# EAGLE library part AMP_PAM8403 (library aaaacustom)
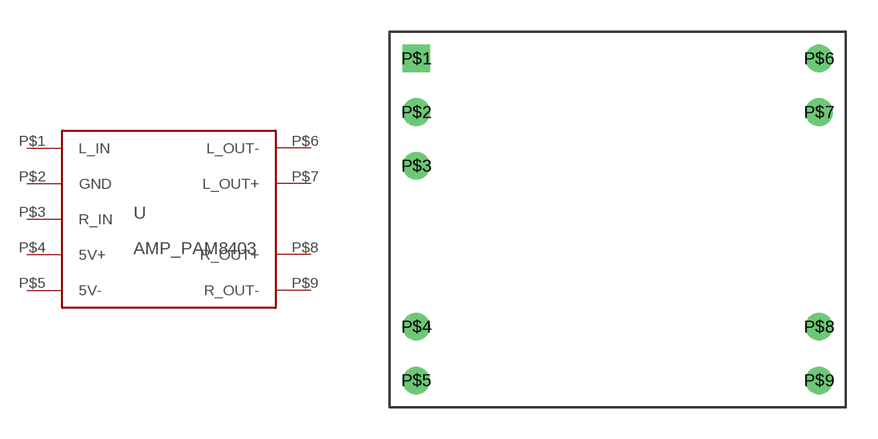
[diagram p3: symbol with the pads of AMP_PAM8403; footprint AMP_PAM8403]

Designator prefix -

## AMP_PAM8403  [AMP_PAM8403]
P$1  L_IN
P$2  GND
P$3  R_IN
P$4  5V+
P$5  5V-
P$6  L_OUT-
P$7  L_OUT+
P$8  R_OUT+
P$9  R_OUT-

## Footprint AMP_PAM8403 (pad centres in mm)
drill 0.8 square: P$1 0,0
drill 0.8: P$2 0,-2.54; P$3 0,-5.08; P$4 0,-12.7; P$5 0,-15.24; P$6 19.05,0; P$7 19.05,-2.54; P$8 19.05,-12.7; P$9 19.05,-15.24